# EAGLE library part TQFP32-ISP (library SmallRoomLabs)
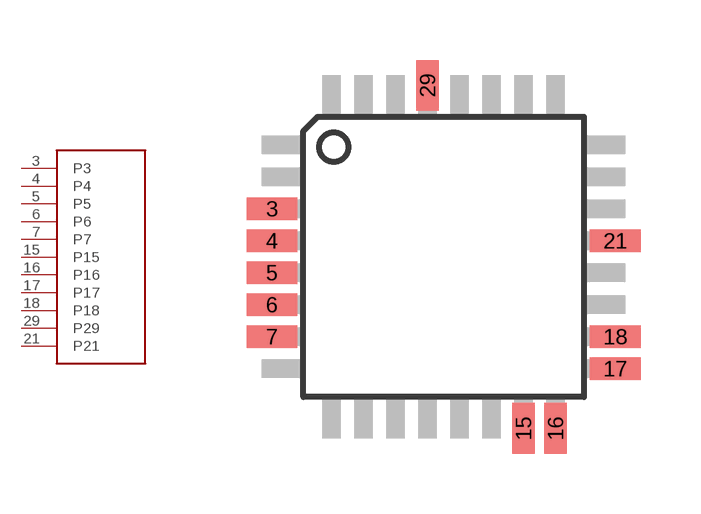
[diagram p10: symbol with the pads of TQFP32-08-ISP; footprint TQFP32-08-ISP]

Designator prefix -

## TQFP32-ISP  [TQFP32-08-ISP]
3  P3
4  P4
5  P5
6  P6
7  P7
15  P15
16  P16
17  P17
18  P18
21  P21
29  P29

## Footprint TQFP32-08-ISP (pad centres in mm)
smd 1.27 x 0.559: 3 -4.293,1.2; 4 -4.293,0.4; 5 -4.293,-0.4; 6 -4.293,-1.2; 7 -4.293,-2; 17 4.293,-2.8; 18 4.293,-2; 21 4.293,0.4
smd 0.559 x 1.27: 15 2,-4.293; 16 2.8,-4.293; 29 -0.4,4.293